# Altium schematic symbol library M20-7821642.SchLib: 1 symbol
Pins are listed as number, name and electrical type; pins without a type are passive.

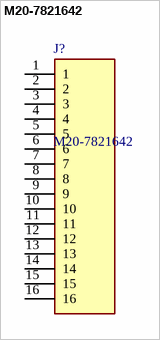
[diagram p0: symbol M20-7821642]

## M20-7821642
designator J?
2.54mm (0.1") Pitch SIL Vertical Throughboard Socket Assembly, selective gold + tin, 16 contacts; Manufacturer_Name: Harwin; Geometry.Height: 8.65mm; Mouser Part Number: 855-M20-7821642; Mouser Price/Stock: https://www.mouser.co.uk/ProductDetail/Harwin/M20-7821642?qs=ulE8k0yEMYYHOwsI6S7TGA%3D%3D; Manufacturer_Part_Number: M20-7821642; Datasheet Link: https://cdn.harwin.com/pdfs/M20-782.pdf
footprint RHDR16W70P0X254_1X16_4104X250X865P
pins: 1, 2, 3, 4, 5, 6, 7, 8, 9, 10, 11, 12, 13, 14, 15, 16